# EAGLE library part CON_USB-C-16 (library akita)
USB Type-C, 16p with 8p dummy
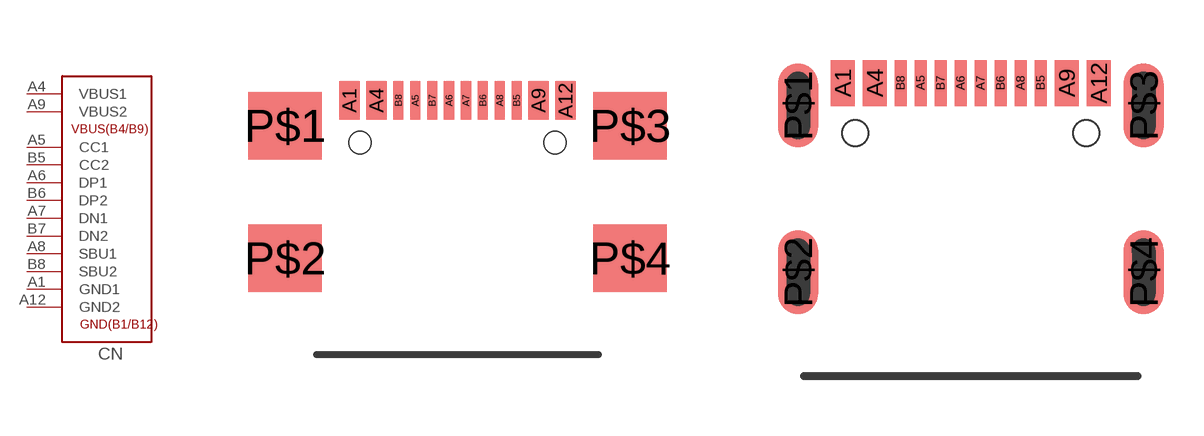
[diagram p207: symbol with the pads of USB-C_16P; footprints USB-C_16P, USB-C_16P_TH]

Designator prefix CN

## CON_USB-C-16  [USB-C_16P]
A1  GND1
A4  VBUS1
A5  CC1
A6  DP1
A7  DN1
A8  SBU1
A9  VBUS2
A12  GND2
B5  CC2
B6  DP2
B7  DN2
B8  SBU2

## CON_USB-C-16TH  [USB-C_16P_TH]
Pads as for USB-C_16P

## Footprint USB-C_16P (pad centres in mm)
USB Type-C Receptable, 16p with 8p dummy, GCT USB4110
smd 0.6 x 1.15: A1 -3.2,1; A4 -2.4,1; A9 2.4,1; A12 3.2,1
smd 0.3 x 1.15: A5 -1.25,1; A6 -0.25,1; A7 0.25,1; A8 1.25,1; B5 1.75,1; B6 0.75,1; B7 -0.75,1; B8 -1.75,1
smd 2.18 x 2: P$1 -5.11,0.25; P$2 -5.11,-3.68; P$3 5.11,0.25; P$4 5.11,-3.68
hole 0.65 at -2.89,-0.25
hole 0.65 at 2.89,-0.25

## Footprint USB-C_16P_TH (pad centres in mm)
USB Type-C Receptable, 16p with 8p dummy, GCT USB4110
smd 0.6 x 1.15: A1 -3.2,1; A4 -2.4,1; A9 2.4,1; A12 3.2,1
smd 0.3 x 1.15: A5 -1.25,1; A6 -0.25,1; A7 0.25,1; A8 1.25,1; B5 1.75,1; B6 0.75,1; B7 -0.75,1; B8 -1.75,1
smd 1 x 2.1: P$1 -4.32,0.435; P$2 -4.32,-3.735; P$3 4.32,0.435; P$4 4.32,-3.735
hole 0.65 at -2.89,-0.25
hole 0.65 at 2.89,-0.25